# EAGLE library part AD780 (library Particulates)
2.5V/3V Voltage Reference
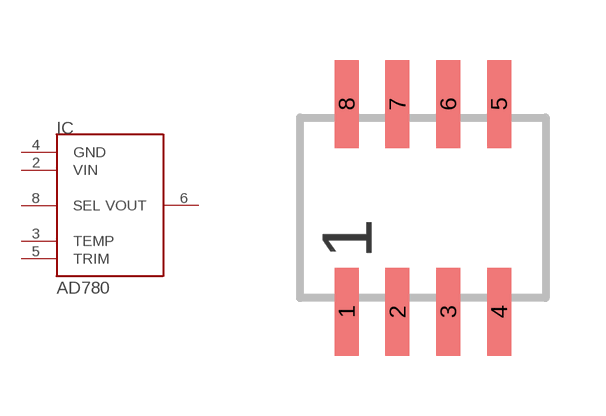
[diagram p3: symbol with the pads of SOP08; footprint SOP08]

Designator prefix IC

## AD780  [SOP08]
2  VIN  pwr
3  TEMP
4  GND  pwr
5  TRIM
6  VOUT  out
8  SEL

## Footprint SOP08 (pad centres in mm)
SMALL OUTLINE PACKAGE
smd 0.6 x 2.2: 1 -1.905,-2.6; 2 -0.635,-2.6; 3 0.635,-2.6; 4 1.905,-2.6; 5 1.905,2.6; 6 0.635,2.6; 7 -0.635,2.6; 8 -1.905,2.6